# Altium footprint library L08R5000Q1.PcbLib: 1 footprints
Each footprint in its own frame and in the unit in brackets; x right, y up, seen from the top. Pads: shape width x height; smd on the part's side, far side on the other; paste and mask are expansions set on the pad; w line width, h text height; cw(c..) or ccw(c..) is an arc to the next point about the centre after c.
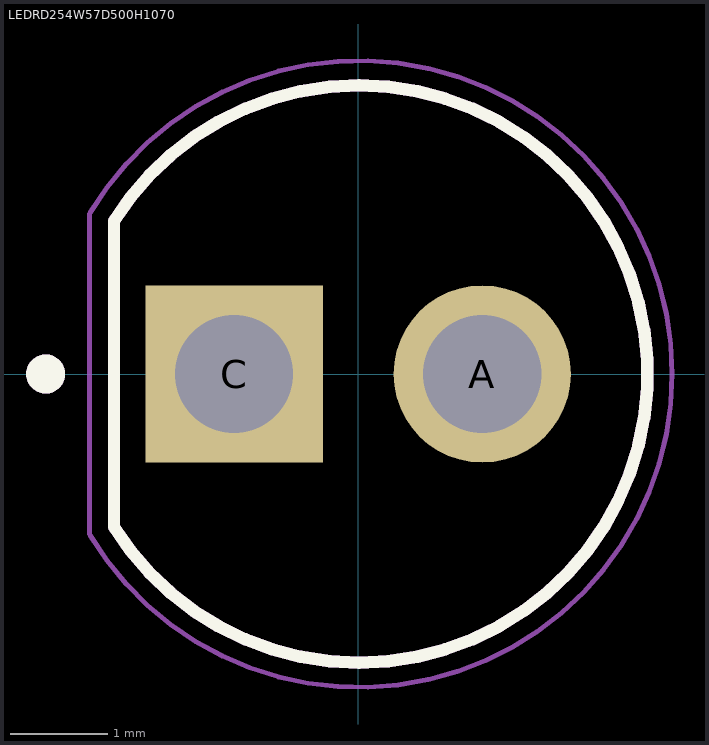
[diagram p0: the footprint, top view; thin cyan lines are the x and y axes]

## LEDRD254W57D500H1070 [mm]
pads (2):
  round 1.815 hole 1.21: A(1.27,0)
  rect 1.815x1.815 hole 1.21: C(-1.27,0)
Top Overlay:
  circle w0.2: c-3.2,0 r0.1
  lines w0.127: -2.5,-1.566 ccw(c0.006,0) -2.5,1.566 -2.5,-1.566
Mechanical 13:
  circle w0.2: c-3.2,0 r0.1
  lines w0.127: -2.5,-1.566 ccw(c0.006,0) -2.5,1.566 -2.5,-1.566
Mechanical 15:
  lines w0.05: -2.75,-1.64 -2.75,1.64 ; -2.743,-1.652 ccw(c0.007,0) -2.743,1.652
3D body "step_temp.STEP": height 9.1, standoff -17.8, extent -2.6,-2.95 2.95,2.95